# Altium integrated library Microchip Microcontroller 8-Bit PIC16.IntLib: 1412 symbols (part 23 of 47)
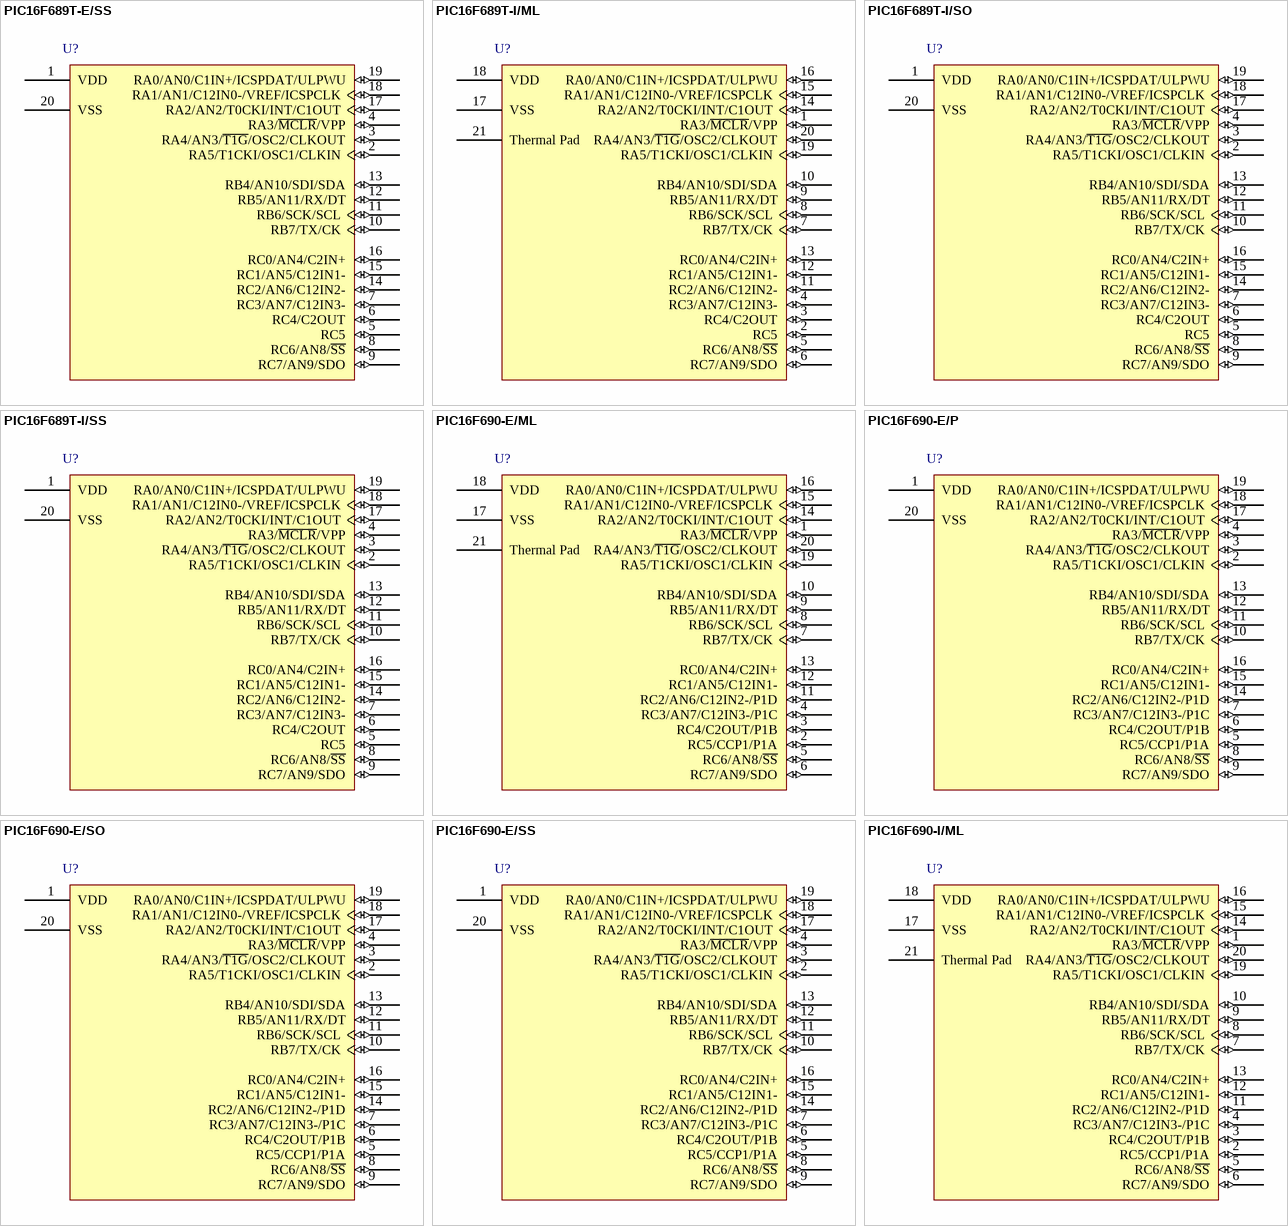
[diagram p134: symbols PIC16F689T-E/SS to PIC16F690-I/ML]

## PIC16F690-I/ML
designator U?
Flash-Based, 8-Bit CMOS Microcontroller with nanoWatt Technology, 4K (x14-Bit words) Program Memory, 512 Bytes Data Memory, 18 I/O pins, 20-Pin QFN, Standard VDD Range, Industrial Temperature; Published: 29-Jan-2009; DatasheetVersion: revE, Mar-2008; PackageVersion: revAW, Oct-2008; PackageReference: QFN-ML20; Publisher: Altium Limited; PackageDescription: 20-Lead Plastic Quad Flat, No Lead Package (ML) - 4x4x0.9 mm Body [QFN]; ComponentLink1Description: Manufacturer Link; ComponentLink1URL: http://www.microchip.com; ComponentLink2Description: Datasheet; ComponentLink2URL: http://ww1.microchip.com/downloads/en/DeviceDoc/41262E.pdf; ComponentLink3Description: Packaging Specification; ComponentLink3URL: http://ww1.microchip.com/downloads/en/PackagingSpec/00049AW.pdf
footprint QFN-ML20_N (QFN, 20-Leads, Body 4x4mm, Pitch 0.5mm, IPC Medium Density)
footprint QFN-ML20_L (QFN, 20-Leads, Body 4x4mm, Pitch 0.5mm, IPC High Density)
footprint QFN-ML20_M (QFN, 20-Leads, Body 4x4mm, Pitch 0.5mm, IPC Low Density)
pins: 1 RA3/~{MCLR}/VPP (io), 2 RC5/CCP1/P1A (io), 3 RC4/C2OUT/P1B (io), 4 RC3/AN7/C12IN3-/P1C (io), 5 RC6/AN8/~{SS} (io), 6 RC7/AN9/SDO (io), 7 RB7/TX/CK (io), 8 RB6/SCK/SCL (io), 9 RB5/AN11/RX/DT (io), 10 RB4/AN10/SDI/SDA (io), 11 RC2/AN6/C12IN2-/P1D (io), 12 RC1/AN5/C12IN1- (io), 13 RC0/AN4/C2IN+ (io), 14 RA2/AN2/T0CKI/INT/C1OUT (io), 15 RA1/AN1/C12IN0-/VREF/ICSPCLK (io), 16 RA0/AN0/C1IN+/ICSPDAT/ULPWU (io), 17 VSS (power), 18 VDD (power), 19 RA5/T1CKI/OSC1/CLKIN (io), 20 RA4/AN3/~{T1G}/OSC2/CLKOUT (io), 21 Thermal Pad

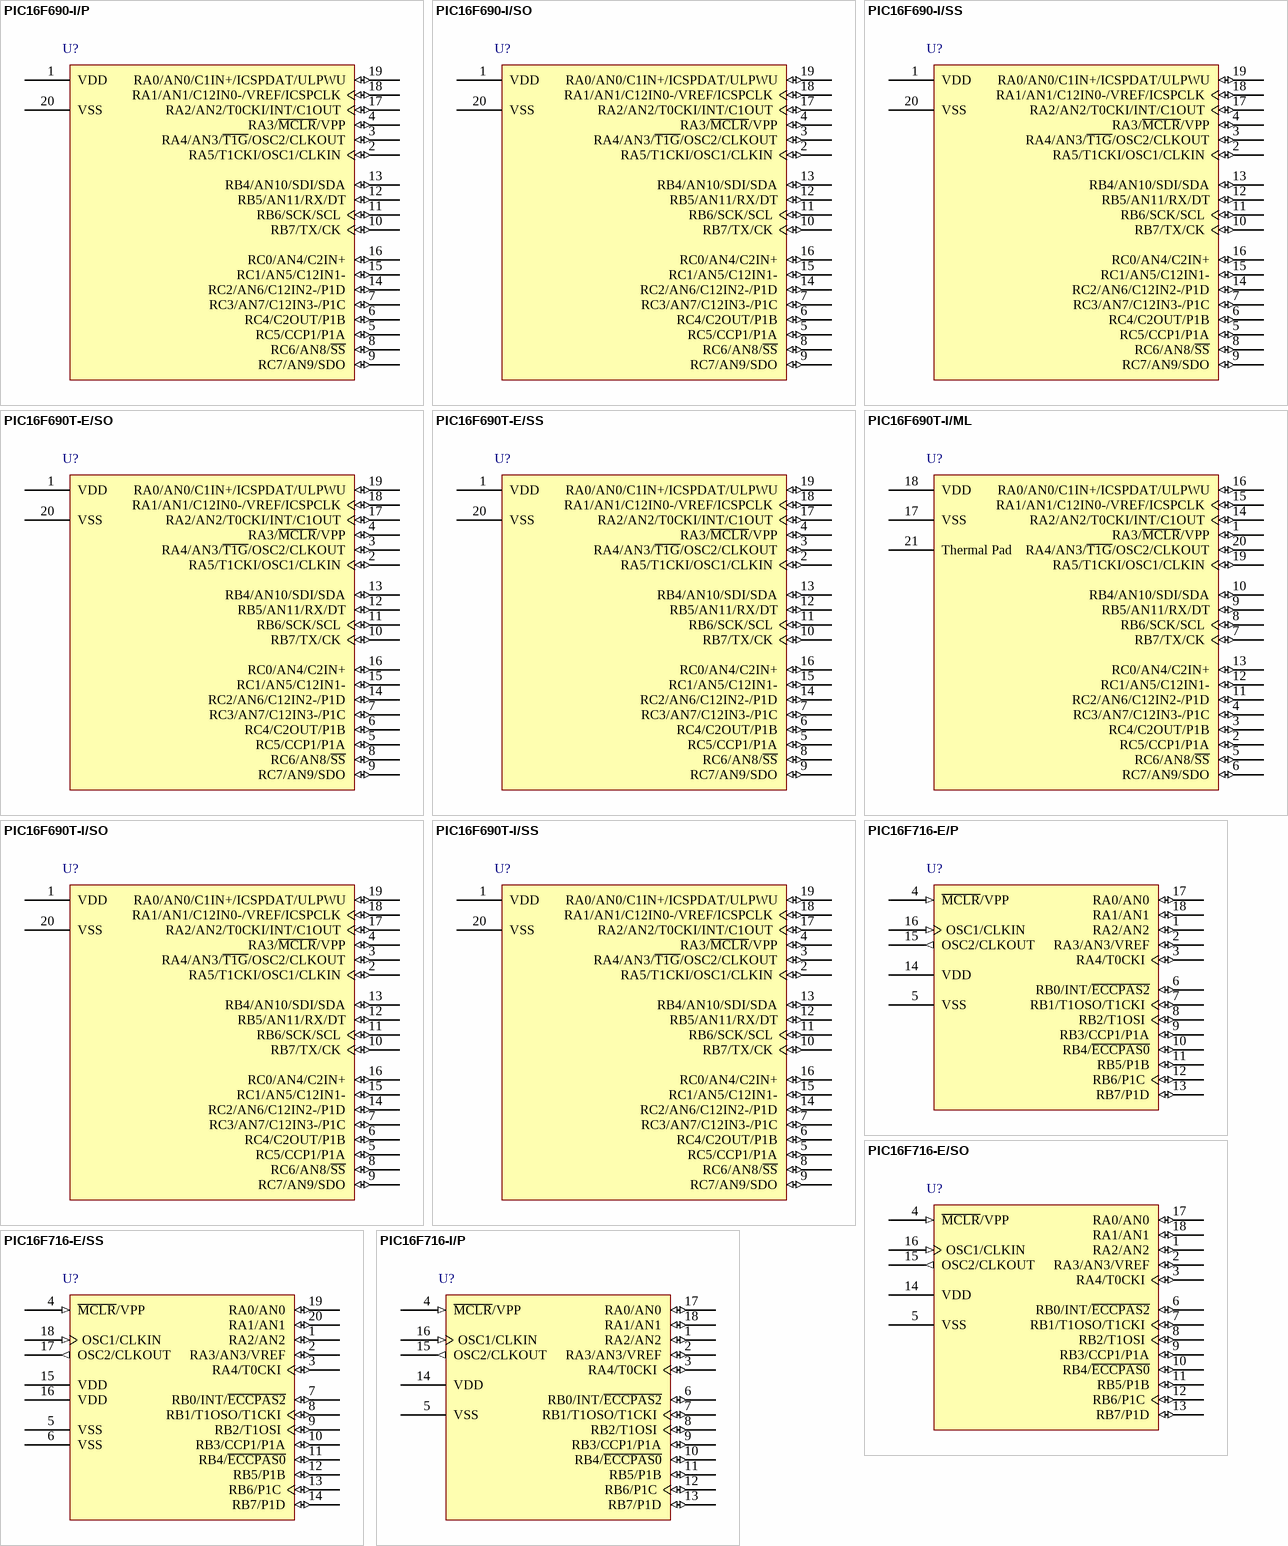
[diagram p50: symbols PIC16F690-I/P to PIC16F716-I/P]

## PIC16F690-I/P
designator U?
Flash-Based, 8-Bit CMOS Microcontroller with nanoWatt Technology, 4K (x14-Bit words) Program Memory, 512 Bytes Data Memory, 18 I/O pins, 20-Pin PDIP, Standard VDD Range, Industrial Temperature; Published: 29-Jan-2009; DatasheetVersion: revE, Mar-2008; PackageVersion: revAW, Oct-2008; PackageReference: PDIP300-P20; Publisher: Altium Limited; PackageDescription: 20-Lead Plastic Dual In-Line (P) - 300 mil Body [PDIP]; ComponentLink1Description: Manufacturer Link; ComponentLink1URL: http://www.microchip.com; ComponentLink2Description: Datasheet; ComponentLink2URL: http://ww1.microchip.com/downloads/en/DeviceDoc/41262E.pdf; ComponentLink3Description: Packaging Specification; ComponentLink3URL: http://ww1.microchip.com/downloads/en/PackagingSpec/00049AW.pdf
footprint PDIP300-P20 (DIP, 20-Leads, Row Spacing 7.62mm, Pitch 2.54mm, Body 25.9x6.6mm)
pins: 1 VDD (power), 2 RA5/T1CKI/OSC1/CLKIN (io), 3 RA4/AN3/~{T1G}/OSC2/CLKOUT (io), 4 RA3/~{MCLR}/VPP (io), 5 RC5/CCP1/P1A (io), 6 RC4/C2OUT/P1B (io), 7 RC3/AN7/C12IN3-/P1C (io), 8 RC6/AN8/~{SS} (io), 9 RC7/AN9/SDO (io), 10 RB7/TX/CK (io), 11 RB6/SCK/SCL (io), 12 RB5/AN11/RX/DT (io), 13 RB4/AN10/SDI/SDA (io), 14 RC2/AN6/C12IN2-/P1D (io), 15 RC1/AN5/C12IN1- (io), 16 RC0/AN4/C2IN+ (io), 17 RA2/AN2/T0CKI/INT/C1OUT (io), 18 RA1/AN1/C12IN0-/VREF/ICSPCLK (io), 19 RA0/AN0/C1IN+/ICSPDAT/ULPWU (io), 20 VSS (power)

## PIC16F690-I/SO
designator U?
Flash-Based, 8-Bit CMOS Microcontroller with nanoWatt Technology, 4K (x14-Bit words) Program Memory, 512 Bytes Data Memory, 18 I/O pins, 20-Pin SOIC, Standard VDD Range, Industrial Temperature; Published: 29-Jan-2009; DatasheetVersion: revE, Mar-2008; PackageVersion: revAW, Oct-2008; PackageReference: SOIC-SO20; Publisher: Altium Limited; PackageDescription: 20-Lead Plastic Small Outline (SO) - Wide 7.50mm Body [SOIC]; Code_JEDEC: MS-013-AC; Code_IPC: SOIC127P1030-20; ComponentLink1Description: Manufacturer Link; ComponentLink1URL: http://www.microchip.com; ComponentLink2Description: Datasheet; ComponentLink2URL: http://ww1.microchip.com/downloads/en/DeviceDoc/41262E.pdf; ComponentLink3Description: Packaging Specification; ComponentLink3URL: http://ww1.microchip.com/downloads/en/PackagingSpec/00049AW.pdf
footprint SOIC-SO20_N (SOIC, 20-Leads, Body 12.8x7.5mm, Pitch 1.27mm, IPC Medium Density)
footprint SOIC-SO20_L (SOIC, 20-Leads, Body 12.8x7.5mm, Pitch 1.27mm, IPC High Density)
footprint SOIC-SO20_M (SOIC, 20-Leads, Body 12.8x7.5mm, Pitch 1.27mm, IPC Low Density)
pins: 1 VDD (power), 2 RA5/T1CKI/OSC1/CLKIN (io), 3 RA4/AN3/~{T1G}/OSC2/CLKOUT (io), 4 RA3/~{MCLR}/VPP (io), 5 RC5/CCP1/P1A (io), 6 RC4/C2OUT/P1B (io), 7 RC3/AN7/C12IN3-/P1C (io), 8 RC6/AN8/~{SS} (io), 9 RC7/AN9/SDO (io), 10 RB7/TX/CK (io), 11 RB6/SCK/SCL (io), 12 RB5/AN11/RX/DT (io), 13 RB4/AN10/SDI/SDA (io), 14 RC2/AN6/C12IN2-/P1D (io), 15 RC1/AN5/C12IN1- (io), 16 RC0/AN4/C2IN+ (io), 17 RA2/AN2/T0CKI/INT/C1OUT (io), 18 RA1/AN1/C12IN0-/VREF/ICSPCLK (io), 19 RA0/AN0/C1IN+/ICSPDAT/ULPWU (io), 20 VSS (power)

## PIC16F690-I/SS
designator U?
Flash-Based, 8-Bit CMOS Microcontroller with nanoWatt Technology, 4K (x14-Bit words) Program Memory, 512 Bytes Data Memory, 18 I/O pins, 20-Pin SSOP, Standard VDD Range, Industrial Temperature; Published: 29-Jan-2009; DatasheetVersion: revE, Mar-2008; PackageVersion: revAW, Oct-2008; PackageReference: SSOP-SS20; Publisher: Altium Limited; PackageDescription: 20-Lead Plastic Shrink Small Outline (SS) - 5.3mm Body [SSOP]; Code_JEDEC: MO-150; Code_IPC: SOP65P780-20; ComponentLink1Description: Manufacturer Link; ComponentLink1URL: http://www.microchip.com; ComponentLink2Description: Datasheet; ComponentLink2URL: http://ww1.microchip.com/downloads/en/DeviceDoc/41262E.pdf; ComponentLink3Description: Packaging Specification; ComponentLink3URL: http://ww1.microchip.com/downloads/en/PackagingSpec/00049AW.pdf
footprint SSOP-SS20_N (SOP, 20-Leads, Body 7.2x5.2mm, Pitch 0.65mm, IPC Medium Density)
footprint SSOP-SS20_L (SOP, 20-Leads, Body 7.2x5.2mm, Pitch 0.65mm, IPC High Density)
footprint SSOP-SS20_M (SOP, 20-Leads, Body 7.2x5.2mm, Pitch 0.65mm, IPC Low Density)
pins: 1 VDD (power), 2 RA5/T1CKI/OSC1/CLKIN (io), 3 RA4/AN3/~{T1G}/OSC2/CLKOUT (io), 4 RA3/~{MCLR}/VPP (io), 5 RC5/CCP1/P1A (io), 6 RC4/C2OUT/P1B (io), 7 RC3/AN7/C12IN3-/P1C (io), 8 RC6/AN8/~{SS} (io), 9 RC7/AN9/SDO (io), 10 RB7/TX/CK (io), 11 RB6/SCK/SCL (io), 12 RB5/AN11/RX/DT (io), 13 RB4/AN10/SDI/SDA (io), 14 RC2/AN6/C12IN2-/P1D (io), 15 RC1/AN5/C12IN1- (io), 16 RC0/AN4/C2IN+ (io), 17 RA2/AN2/T0CKI/INT/C1OUT (io), 18 RA1/AN1/C12IN0-/VREF/ICSPCLK (io), 19 RA0/AN0/C1IN+/ICSPDAT/ULPWU (io), 20 VSS (power)

## PIC16F690T-E/SO
designator U?
Flash-Based, 8-Bit CMOS Microcontroller with nanoWatt Technology, 4K (x14-Bit words) Program Memory, 512 Bytes Data Memory, 18 I/O pins, 20-Pin SOIC, Standard VDD Range, Extended Temperature, Tape and Reel; Published: 29-Jan-2009; DatasheetVersion: revE, Mar-2008; PackageVersion: revAW, Oct-2008; PackageReference: SOIC-SO20; Publisher: Altium Limited; PackageDescription: 20-Lead Plastic Small Outline (SO) - Wide 7.50mm Body [SOIC]; Code_JEDEC: MS-013-AC; Code_IPC: SOIC127P1030-20; ComponentLink1Description: Manufacturer Link; ComponentLink1URL: http://www.microchip.com; ComponentLink2Description: Datasheet; ComponentLink2URL: http://ww1.microchip.com/downloads/en/DeviceDoc/41262E.pdf; ComponentLink3Description: Packaging Specification; ComponentLink3URL: http://ww1.microchip.com/downloads/en/PackagingSpec/00049AW.pdf
footprint SOIC-SO20_N (SOIC, 20-Leads, Body 12.8x7.5mm, Pitch 1.27mm, IPC Medium Density)
footprint SOIC-SO20_L (SOIC, 20-Leads, Body 12.8x7.5mm, Pitch 1.27mm, IPC High Density)
footprint SOIC-SO20_M (SOIC, 20-Leads, Body 12.8x7.5mm, Pitch 1.27mm, IPC Low Density)
pins: 1 VDD (power), 2 RA5/T1CKI/OSC1/CLKIN (io), 3 RA4/AN3/~{T1G}/OSC2/CLKOUT (io), 4 RA3/~{MCLR}/VPP (io), 5 RC5/CCP1/P1A (io), 6 RC4/C2OUT/P1B (io), 7 RC3/AN7/C12IN3-/P1C (io), 8 RC6/AN8/~{SS} (io), 9 RC7/AN9/SDO (io), 10 RB7/TX/CK (io), 11 RB6/SCK/SCL (io), 12 RB5/AN11/RX/DT (io), 13 RB4/AN10/SDI/SDA (io), 14 RC2/AN6/C12IN2-/P1D (io), 15 RC1/AN5/C12IN1- (io), 16 RC0/AN4/C2IN+ (io), 17 RA2/AN2/T0CKI/INT/C1OUT (io), 18 RA1/AN1/C12IN0-/VREF/ICSPCLK (io), 19 RA0/AN0/C1IN+/ICSPDAT/ULPWU (io), 20 VSS (power)

## PIC16F690T-E/SS
designator U?
Flash-Based, 8-Bit CMOS Microcontroller with nanoWatt Technology, 4K (x14-Bit words) Program Memory, 512 Bytes Data Memory, 18 I/O pins, 20-Pin SSOP, Standard VDD Range, Extended Temperature, Tape and Reel; Published: 29-Jan-2009; DatasheetVersion: revE, Mar-2008; PackageVersion: revAW, Oct-2008; PackageReference: SSOP-SS20; Publisher: Altium Limited; PackageDescription: 20-Lead Plastic Shrink Small Outline (SS) - 5.3mm Body [SSOP]; Code_JEDEC: MO-150; Code_IPC: SOP65P780-20; ComponentLink1Description: Manufacturer Link; ComponentLink1URL: http://www.microchip.com; ComponentLink2Description: Datasheet; ComponentLink2URL: http://ww1.microchip.com/downloads/en/DeviceDoc/41262E.pdf; ComponentLink3Description: Packaging Specification; ComponentLink3URL: http://ww1.microchip.com/downloads/en/PackagingSpec/00049AW.pdf
footprint SSOP-SS20_N (SOP, 20-Leads, Body 7.2x5.2mm, Pitch 0.65mm, IPC Medium Density)
footprint SSOP-SS20_L (SOP, 20-Leads, Body 7.2x5.2mm, Pitch 0.65mm, IPC High Density)
footprint SSOP-SS20_M (SOP, 20-Leads, Body 7.2x5.2mm, Pitch 0.65mm, IPC Low Density)
pins: 1 VDD (power), 2 RA5/T1CKI/OSC1/CLKIN (io), 3 RA4/AN3/~{T1G}/OSC2/CLKOUT (io), 4 RA3/~{MCLR}/VPP (io), 5 RC5/CCP1/P1A (io), 6 RC4/C2OUT/P1B (io), 7 RC3/AN7/C12IN3-/P1C (io), 8 RC6/AN8/~{SS} (io), 9 RC7/AN9/SDO (io), 10 RB7/TX/CK (io), 11 RB6/SCK/SCL (io), 12 RB5/AN11/RX/DT (io), 13 RB4/AN10/SDI/SDA (io), 14 RC2/AN6/C12IN2-/P1D (io), 15 RC1/AN5/C12IN1- (io), 16 RC0/AN4/C2IN+ (io), 17 RA2/AN2/T0CKI/INT/C1OUT (io), 18 RA1/AN1/C12IN0-/VREF/ICSPCLK (io), 19 RA0/AN0/C1IN+/ICSPDAT/ULPWU (io), 20 VSS (power)

## PIC16F690T-I/ML
designator U?
Flash-Based, 8-Bit CMOS Microcontroller with nanoWatt Technology, 4K (x14-Bit words) Program Memory, 512 Bytes Data Memory, 18 I/O pins, 20-Pin QFN, Standard VDD Range, Industrial Temperature, Tape and Reel; Published: 29-Jan-2009; DatasheetVersion: revE, Mar-2008; PackageVersion: revAW, Oct-2008; PackageReference: QFN-ML20; Publisher: Altium Limited; PackageDescription: 20-Lead Plastic Quad Flat, No Lead Package (ML) - 4x4x0.9 mm Body [QFN]; ComponentLink1Description: Manufacturer Link; ComponentLink1URL: http://www.microchip.com; ComponentLink2Description: Datasheet; ComponentLink2URL: http://ww1.microchip.com/downloads/en/DeviceDoc/41262E.pdf; ComponentLink3Description: Packaging Specification; ComponentLink3URL: http://ww1.microchip.com/downloads/en/PackagingSpec/00049AW.pdf
footprint QFN-ML20_N (QFN, 20-Leads, Body 4x4mm, Pitch 0.5mm, IPC Medium Density)
footprint QFN-ML20_L (QFN, 20-Leads, Body 4x4mm, Pitch 0.5mm, IPC High Density)
footprint QFN-ML20_M (QFN, 20-Leads, Body 4x4mm, Pitch 0.5mm, IPC Low Density)
pins: 1 RA3/~{MCLR}/VPP (io), 2 RC5/CCP1/P1A (io), 3 RC4/C2OUT/P1B (io), 4 RC3/AN7/C12IN3-/P1C (io), 5 RC6/AN8/~{SS} (io), 6 RC7/AN9/SDO (io), 7 RB7/TX/CK (io), 8 RB6/SCK/SCL (io), 9 RB5/AN11/RX/DT (io), 10 RB4/AN10/SDI/SDA (io), 11 RC2/AN6/C12IN2-/P1D (io), 12 RC1/AN5/C12IN1- (io), 13 RC0/AN4/C2IN+ (io), 14 RA2/AN2/T0CKI/INT/C1OUT (io), 15 RA1/AN1/C12IN0-/VREF/ICSPCLK (io), 16 RA0/AN0/C1IN+/ICSPDAT/ULPWU (io), 17 VSS (power), 18 VDD (power), 19 RA5/T1CKI/OSC1/CLKIN (io), 20 RA4/AN3/~{T1G}/OSC2/CLKOUT (io), 21 Thermal Pad

## PIC16F690T-I/SO
designator U?
Flash-Based, 8-Bit CMOS Microcontroller with nanoWatt Technology, 4K (x14-Bit words) Program Memory, 512 Bytes Data Memory, 18 I/O pins, 20-Pin SOIC, Standard VDD Range, Industrial Temperature, Tape and Reel; Published: 29-Jan-2009; DatasheetVersion: revE, Mar-2008; PackageVersion: revAW, Oct-2008; PackageReference: SOIC-SO20; Publisher: Altium Limited; PackageDescription: 20-Lead Plastic Small Outline (SO) - Wide 7.50mm Body [SOIC]; Code_JEDEC: MS-013-AC; Code_IPC: SOIC127P1030-20; ComponentLink1Description: Manufacturer Link; ComponentLink1URL: http://www.microchip.com; ComponentLink2Description: Datasheet; ComponentLink2URL: http://ww1.microchip.com/downloads/en/DeviceDoc/41262E.pdf; ComponentLink3Description: Packaging Specification; ComponentLink3URL: http://ww1.microchip.com/downloads/en/PackagingSpec/00049AW.pdf
footprint SOIC-SO20_N (SOIC, 20-Leads, Body 12.8x7.5mm, Pitch 1.27mm, IPC Medium Density)
footprint SOIC-SO20_L (SOIC, 20-Leads, Body 12.8x7.5mm, Pitch 1.27mm, IPC High Density)
footprint SOIC-SO20_M (SOIC, 20-Leads, Body 12.8x7.5mm, Pitch 1.27mm, IPC Low Density)
pins: 1 VDD (power), 2 RA5/T1CKI/OSC1/CLKIN (io), 3 RA4/AN3/~{T1G}/OSC2/CLKOUT (io), 4 RA3/~{MCLR}/VPP (io), 5 RC5/CCP1/P1A (io), 6 RC4/C2OUT/P1B (io), 7 RC3/AN7/C12IN3-/P1C (io), 8 RC6/AN8/~{SS} (io), 9 RC7/AN9/SDO (io), 10 RB7/TX/CK (io), 11 RB6/SCK/SCL (io), 12 RB5/AN11/RX/DT (io), 13 RB4/AN10/SDI/SDA (io), 14 RC2/AN6/C12IN2-/P1D (io), 15 RC1/AN5/C12IN1- (io), 16 RC0/AN4/C2IN+ (io), 17 RA2/AN2/T0CKI/INT/C1OUT (io), 18 RA1/AN1/C12IN0-/VREF/ICSPCLK (io), 19 RA0/AN0/C1IN+/ICSPDAT/ULPWU (io), 20 VSS (power)

## PIC16F690T-I/SS
designator U?
Flash-Based, 8-Bit CMOS Microcontroller with nanoWatt Technology, 4K (x14-Bit words) Program Memory, 512 Bytes Data Memory, 18 I/O pins, 20-Pin SSOP, Standard VDD Range, Industrial Temperature, Tape and Reel; Published: 29-Jan-2009; DatasheetVersion: revE, Mar-2008; PackageVersion: revAW, Oct-2008; PackageReference: SSOP-SS20; Publisher: Altium Limited; PackageDescription: 20-Lead Plastic Shrink Small Outline (SS) - 5.3mm Body [SSOP]; Code_JEDEC: MO-150; Code_IPC: SOP65P780-20; ComponentLink1Description: Manufacturer Link; ComponentLink1URL: http://www.microchip.com; ComponentLink2Description: Datasheet; ComponentLink2URL: http://ww1.microchip.com/downloads/en/DeviceDoc/41262E.pdf; ComponentLink3Description: Packaging Specification; ComponentLink3URL: http://ww1.microchip.com/downloads/en/PackagingSpec/00049AW.pdf
footprint SSOP-SS20_N (SOP, 20-Leads, Body 7.2x5.2mm, Pitch 0.65mm, IPC Medium Density)
footprint SSOP-SS20_L (SOP, 20-Leads, Body 7.2x5.2mm, Pitch 0.65mm, IPC High Density)
footprint SSOP-SS20_M (SOP, 20-Leads, Body 7.2x5.2mm, Pitch 0.65mm, IPC Low Density)
pins: 1 VDD (power), 2 RA5/T1CKI/OSC1/CLKIN (io), 3 RA4/AN3/~{T1G}/OSC2/CLKOUT (io), 4 RA3/~{MCLR}/VPP (io), 5 RC5/CCP1/P1A (io), 6 RC4/C2OUT/P1B (io), 7 RC3/AN7/C12IN3-/P1C (io), 8 RC6/AN8/~{SS} (io), 9 RC7/AN9/SDO (io), 10 RB7/TX/CK (io), 11 RB6/SCK/SCL (io), 12 RB5/AN11/RX/DT (io), 13 RB4/AN10/SDI/SDA (io), 14 RC2/AN6/C12IN2-/P1D (io), 15 RC1/AN5/C12IN1- (io), 16 RC0/AN4/C2IN+ (io), 17 RA2/AN2/T0CKI/INT/C1OUT (io), 18 RA1/AN1/C12IN0-/VREF/ICSPCLK (io), 19 RA0/AN0/C1IN+/ICSPDAT/ULPWU (io), 20 VSS (power)

## PIC16F716-E/P
designator U?
8-Bit FLASH-Based Microcontroller with A/D Controller and Enhanced Capture/Compare PWM, 2K (x14-Bit words) FLASH, 128 Bytes RAM, 18-Pin PDIP, Extended Temperature; Published: 11-Oct-2004; LatestRevisionDate: 29-Jan-2009; LatestRevisionNote: Sch. layout revised. 3D Model Removed.; DatasheetVersion: revB, Feb-2007; PackageVersion: revAW, Oct-2008; PackageReference: PDIP300-P18; Publisher: Altium Limited; PackageDescription: 18-Lead Plastic Dual In-Line (P) - 300 mil Body [PDIP]; Code_JEDEC: MS-001; ComponentLink1Description: Manufacturer Link; ComponentLink1URL: http://www.microchip.com; ComponentLink2Description: Datasheet; ComponentLink2URL: http://ww1.microchip.com/downloads/en/DeviceDoc/41206a.pdf; ComponentLink3Description: Packaging Specification; ComponentLink3URL: http://ww1.microchip.com/downloads/en/PackagingSpec/00049AW.pdf
footprint PDIP300-P18 (DIP, 18-Leads, Row Spacing 7.62mm, Pitch 2.54mm, Body 22.9x6.6mm)
pins: 1 RA2/AN2 (io), 2 RA3/AN3/VREF (io), 3 RA4/T0CKI (io), 4 ~{MCLR}/VPP (in), 5 VSS (power), 6 RB0/INT/~{ECCPAS2} (io), 7 RB1/T1OSO/T1CKI (io), 8 RB2/T1OSI (io), 9 RB3/CCP1/P1A (io), 10 RB4/~{ECCPAS0} (io), 11 RB5/P1B (io), 12 RB6/P1C (io), 13 RB7/P1D (io), 14 VDD (power), 15 OSC2/CLKOUT (out), 16 OSC1/CLKIN (in), 17 RA0/AN0 (io), 18 RA1/AN1 (io)

## PIC16F716-E/SO
designator U?
8-Bit FLASH-Based Microcontroller with A/D Controller and Enhanced Capture/Compare PWM, 2K (x14-Bit words) FLASH, 128 Bytes RAM, 18-Pin SOIC, Extended Temperature; Published: 11-Oct-2004; LatestRevisionDate: 29-Jan-2009; LatestRevisionNote: Sch. layout revised. 3D Model Removed.; DatasheetVersion: revB, Feb-2007; PackageVersion: revAW, Oct-2008; PackageReference: SOIC-SO18; Publisher: Altium Limited; PackageDescription: 18-Lead Plastic Small Outline (SO) - Wide 7.50mm Body [SOIC]; Code_JEDEC: MS-013; ComponentLink1Description: Manufacturer Link; ComponentLink1URL: http://www.microchip.com; ComponentLink2Description: Datasheet; ComponentLink2URL: http://ww1.microchip.com/downloads/en/DeviceDoc/41206a.pdf; ComponentLink3Description: Packaging Specification; ComponentLink3URL: http://ww1.microchip.com/downloads/en/PackagingSpec/00049AW.pdf
footprint SOIC-SO18_N (SOIC, 18-Leads, Body 11.5x7.5mm, Pitch 1.27mm, IPC Medium Density)
footprint SOIC-SO18_L (SOIC, 18-Leads, Body 11.5x7.5mm, Pitch 1.27mm, IPC High Density)
footprint SOIC-SO18_M (SOIC, 18-Leads, Body 11.5x7.5mm, Pitch 1.27mm, IPC Low Density)
pins: 1 RA2/AN2 (io), 2 RA3/AN3/VREF (io), 3 RA4/T0CKI (io), 4 ~{MCLR}/VPP (in), 5 VSS (power), 6 RB0/INT/~{ECCPAS2} (io), 7 RB1/T1OSO/T1CKI (io), 8 RB2/T1OSI (io), 9 RB3/CCP1/P1A (io), 10 RB4/~{ECCPAS0} (io), 11 RB5/P1B (io), 12 RB6/P1C (io), 13 RB7/P1D (io), 14 VDD (power), 15 OSC2/CLKOUT (out), 16 OSC1/CLKIN (in), 17 RA0/AN0 (io), 18 RA1/AN1 (io)

## PIC16F716-E/SS
designator U?
8-Bit FLASH-Based Microcontroller with A/D Controller and Enhanced Capture/Compare PWM, 2K (x14-Bit words) FLASH, 128 Bytes RAM, 20-Pin SSOP, Extended Temperature; Published: 11-Oct-2004; LatestRevisionDate: 29-Jan-2009; LatestRevisionNote: Sch. layout revised. 3D Model Removed.; DatasheetVersion: revB, Feb-2007; PackageVersion: revAW, Oct-2008; PackageReference: SSOP-SS20; Publisher: Altium Limited; PackageDescription: 20-Lead Plastic Shrink Small Outline (SS) - 5.3mm Body [SSOP]; Code_JEDEC: MO-150; Code_IPC: SOP65P780-20; ComponentLink1Description: Manufacturer Link; ComponentLink1URL: http://www.microchip.com; ComponentLink2Description: Datasheet; ComponentLink2URL: http://ww1.microchip.com/downloads/en/DeviceDoc/41206a.pdf; ComponentLink3Description: Packaging Specification; ComponentLink3URL: http://ww1.microchip.com/downloads/en/PackagingSpec/00049AW.pdf
footprint SSOP-SS20_N (SOP, 20-Leads, Body 7.2x5.2mm, Pitch 0.65mm, IPC Medium Density)
footprint SSOP-SS20_L (SOP, 20-Leads, Body 7.2x5.2mm, Pitch 0.65mm, IPC High Density)
footprint SSOP-SS20_M (SOP, 20-Leads, Body 7.2x5.2mm, Pitch 0.65mm, IPC Low Density)
pins: 1 RA2/AN2 (io), 2 RA3/AN3/VREF (io), 3 RA4/T0CKI (io), 4 ~{MCLR}/VPP (in), 5 VSS (power), 6 VSS (power), 7 RB0/INT/~{ECCPAS2} (io), 8 RB1/T1OSO/T1CKI (io), 9 RB2/T1OSI (io), 10 RB3/CCP1/P1A (io), 11 RB4/~{ECCPAS0} (io), 12 RB5/P1B (io), 13 RB6/P1C (io), 14 RB7/P1D (io), 15 VDD (power), 16 VDD (power), 17 OSC2/CLKOUT (out), 18 OSC1/CLKIN (in), 19 RA0/AN0 (io), 20 RA1/AN1 (io)

## PIC16F716-I/P
designator U?
8-Bit FLASH-Based Microcontroller with A/D Controller and Enhanced Capture/Compare PWM, 2K (x14-Bit words) FLASH, 128 Bytes RAM, 18-Pin PDIP, Industrial Temperature; Published: 11-Oct-2004; LatestRevisionDate: 29-Jan-2009; LatestRevisionNote: Sch. layout revised. 3D Model Removed.; DatasheetVersion: revB, Feb-2007; PackageVersion: revAW, Oct-2008; PackageReference: PDIP300-P18; Publisher: Altium Limited; PackageDescription: 18-Lead Plastic Dual In-Line (P) - 300 mil Body [PDIP]; Code_JEDEC: MS-001; ComponentLink1Description: Manufacturer Link; ComponentLink1URL: http://www.microchip.com; ComponentLink2Description: Datasheet; ComponentLink2URL: http://ww1.microchip.com/downloads/en/DeviceDoc/41206a.pdf; ComponentLink3Description: Packaging Specification; ComponentLink3URL: http://ww1.microchip.com/downloads/en/PackagingSpec/00049AW.pdf
footprint PDIP300-P18 (DIP, 18-Leads, Row Spacing 7.62mm, Pitch 2.54mm, Body 22.9x6.6mm)
pins: 1 RA2/AN2 (io), 2 RA3/AN3/VREF (io), 3 RA4/T0CKI (io), 4 ~{MCLR}/VPP (in), 5 VSS (power), 6 RB0/INT/~{ECCPAS2} (io), 7 RB1/T1OSO/T1CKI (io), 8 RB2/T1OSI (io), 9 RB3/CCP1/P1A (io), 10 RB4/~{ECCPAS0} (io), 11 RB5/P1B (io), 12 RB6/P1C (io), 13 RB7/P1D (io), 14 VDD (power), 15 OSC2/CLKOUT (out), 16 OSC1/CLKIN (in), 17 RA0/AN0 (io), 18 RA1/AN1 (io)

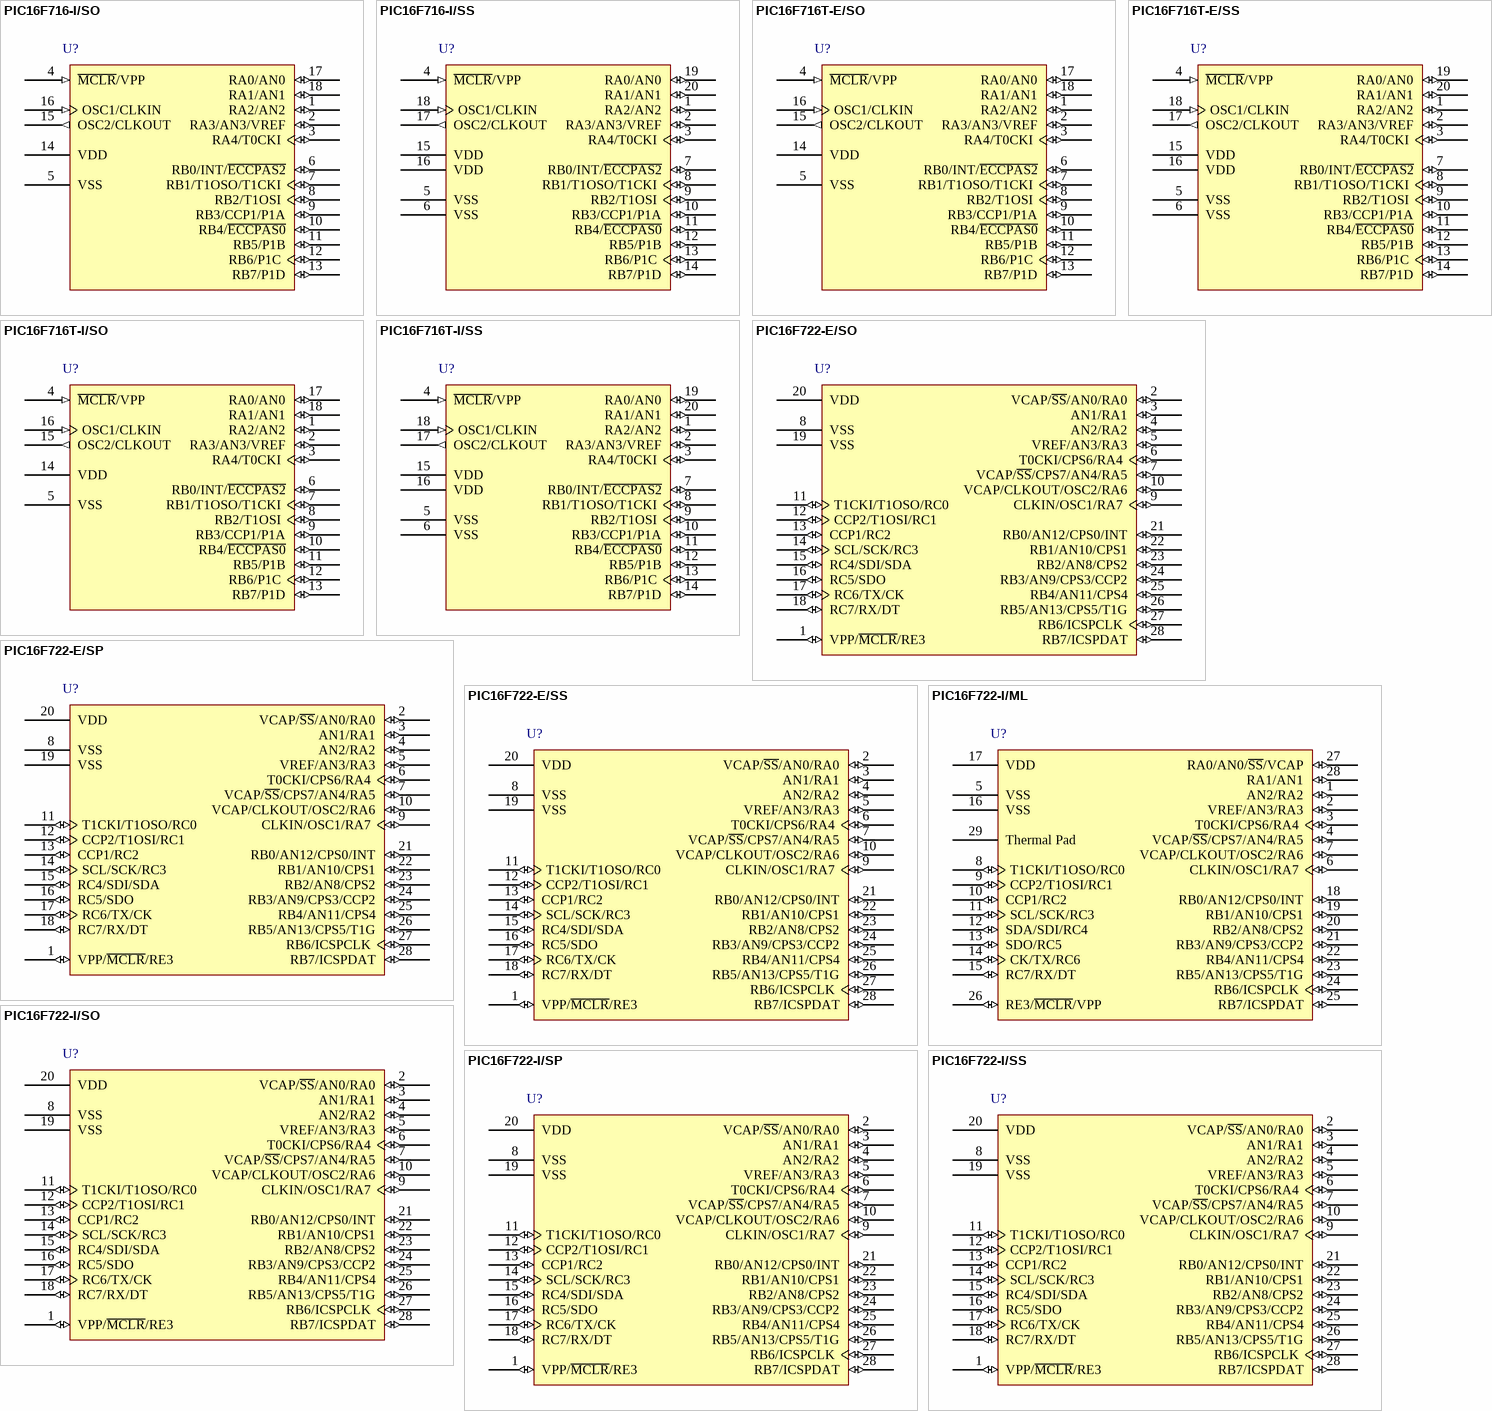
[diagram p51: symbols PIC16F716-I/SO to PIC16F722-I/SS]

## PIC16F716-I/SO
designator U?
8-Bit FLASH-Based Microcontroller with A/D Controller and Enhanced Capture/Compare PWM, 2K (x14-Bit words) FLASH, 128 Bytes RAM, 18-Pin SOIC, Industrial Temperature; Published: 11-Oct-2004; LatestRevisionDate: 29-Jan-2009; LatestRevisionNote: Sch. layout revised. 3D Model Removed.; DatasheetVersion: revB, Feb-2007; PackageVersion: revAW, Oct-2008; PackageReference: SOIC-SO18; Publisher: Altium Limited; PackageDescription: 18-Lead Plastic Small Outline (SO) - Wide 7.50mm Body [SOIC]; Code_JEDEC: MS-013; ComponentLink1Description: Manufacturer Link; ComponentLink1URL: http://www.microchip.com; ComponentLink2Description: Datasheet; ComponentLink2URL: http://ww1.microchip.com/downloads/en/DeviceDoc/41206a.pdf; ComponentLink3Description: Packaging Specification; ComponentLink3URL: http://ww1.microchip.com/downloads/en/PackagingSpec/00049AW.pdf
footprint SOIC-SO18_N (SOIC, 18-Leads, Body 11.5x7.5mm, Pitch 1.27mm, IPC Medium Density)
footprint SOIC-SO18_L (SOIC, 18-Leads, Body 11.5x7.5mm, Pitch 1.27mm, IPC High Density)
footprint SOIC-SO18_M (SOIC, 18-Leads, Body 11.5x7.5mm, Pitch 1.27mm, IPC Low Density)
pins: 1 RA2/AN2 (io), 2 RA3/AN3/VREF (io), 3 RA4/T0CKI (io), 4 ~{MCLR}/VPP (in), 5 VSS (power), 6 RB0/INT/~{ECCPAS2} (io), 7 RB1/T1OSO/T1CKI (io), 8 RB2/T1OSI (io), 9 RB3/CCP1/P1A (io), 10 RB4/~{ECCPAS0} (io), 11 RB5/P1B (io), 12 RB6/P1C (io), 13 RB7/P1D (io), 14 VDD (power), 15 OSC2/CLKOUT (out), 16 OSC1/CLKIN (in), 17 RA0/AN0 (io), 18 RA1/AN1 (io)

## PIC16F716-I/SS
designator U?
8-Bit FLASH-Based Microcontroller with A/D Controller and Enhanced Capture/Compare PWM, 2K (x14-Bit words) FLASH, 128 Bytes RAM, 20-Pin SSOP, Industrial Temperature; Published: 11-Oct-2004; LatestRevisionDate: 29-Jan-2009; LatestRevisionNote: Sch. layout revised. 3D Model Removed.; DatasheetVersion: revB, Feb-2007; PackageVersion: revAW, Oct-2008; PackageReference: SSOP-SS20; Publisher: Altium Limited; PackageDescription: 20-Lead Plastic Shrink Small Outline (SS) - 5.3mm Body [SSOP]; Code_JEDEC: MO-150; Code_IPC: SOP65P780-20; ComponentLink1Description: Manufacturer Link; ComponentLink1URL: http://www.microchip.com; ComponentLink2Description: Datasheet; ComponentLink2URL: http://ww1.microchip.com/downloads/en/DeviceDoc/41206a.pdf; ComponentLink3Description: Packaging Specification; ComponentLink3URL: http://ww1.microchip.com/downloads/en/PackagingSpec/00049AW.pdf
footprint SSOP-SS20_N (SOP, 20-Leads, Body 7.2x5.2mm, Pitch 0.65mm, IPC Medium Density)
footprint SSOP-SS20_L (SOP, 20-Leads, Body 7.2x5.2mm, Pitch 0.65mm, IPC High Density)
footprint SSOP-SS20_M (SOP, 20-Leads, Body 7.2x5.2mm, Pitch 0.65mm, IPC Low Density)
pins: 1 RA2/AN2 (io), 2 RA3/AN3/VREF (io), 3 RA4/T0CKI (io), 4 ~{MCLR}/VPP (in), 5 VSS (power), 6 VSS (power), 7 RB0/INT/~{ECCPAS2} (io), 8 RB1/T1OSO/T1CKI (io), 9 RB2/T1OSI (io), 10 RB3/CCP1/P1A (io), 11 RB4/~{ECCPAS0} (io), 12 RB5/P1B (io), 13 RB6/P1C (io), 14 RB7/P1D (io), 15 VDD (power), 16 VDD (power), 17 OSC2/CLKOUT (out), 18 OSC1/CLKIN (in), 19 RA0/AN0 (io), 20 RA1/AN1 (io)

## PIC16F716T-E/SO
designator U?
8-Bit FLASH-Based Microcontroller with A/D Controller and Enhanced Capture/Compare PWM, 2K (x14-Bit words) FLASH, 128 Bytes RAM, 18-Pin SOIC, Extended Temperature, Tape and Reel; Published: 11-Oct-2004; LatestRevisionDate: 29-Jan-2009; LatestRevisionNote: Sch. layout revised. 3D Model Removed.; DatasheetVersion: revB, Feb-2007; PackageVersion: revAW, Oct-2008; PackageReference: SOIC-SO18; Publisher: Altium Limited; PackageDescription: 18-Lead Plastic Small Outline (SO) - Wide 7.50mm Body [SOIC]; Code_JEDEC: MS-013; ComponentLink1Description: Manufacturer Link; ComponentLink1URL: http://www.microchip.com; ComponentLink2Description: Datasheet; ComponentLink2URL: http://ww1.microchip.com/downloads/en/DeviceDoc/41206a.pdf; ComponentLink3Description: Packaging Specification; ComponentLink3URL: http://ww1.microchip.com/downloads/en/PackagingSpec/00049AW.pdf
footprint SOIC-SO18_N (SOIC, 18-Leads, Body 11.5x7.5mm, Pitch 1.27mm, IPC Medium Density)
footprint SOIC-SO18_L (SOIC, 18-Leads, Body 11.5x7.5mm, Pitch 1.27mm, IPC High Density)
footprint SOIC-SO18_M (SOIC, 18-Leads, Body 11.5x7.5mm, Pitch 1.27mm, IPC Low Density)
pins: 1 RA2/AN2 (io), 2 RA3/AN3/VREF (io), 3 RA4/T0CKI (io), 4 ~{MCLR}/VPP (in), 5 VSS (power), 6 RB0/INT/~{ECCPAS2} (io), 7 RB1/T1OSO/T1CKI (io), 8 RB2/T1OSI (io), 9 RB3/CCP1/P1A (io), 10 RB4/~{ECCPAS0} (io), 11 RB5/P1B (io), 12 RB6/P1C (io), 13 RB7/P1D (io), 14 VDD (power), 15 OSC2/CLKOUT (out), 16 OSC1/CLKIN (in), 17 RA0/AN0 (io), 18 RA1/AN1 (io)

## PIC16F716T-E/SS
designator U?
8-Bit FLASH-Based Microcontroller with A/D Controller and Enhanced Capture/Compare PWM, 2K (x14-Bit words) FLASH, 128 Bytes RAM, 20-Pin SSOP, Extended Temperature, Tape and Reel; Published: 11-Oct-2004; LatestRevisionDate: 29-Jan-2009; LatestRevisionNote: Sch. layout revised. 3D Model Removed.; DatasheetVersion: revB, Feb-2007; PackageVersion: revAW, Oct-2008; PackageReference: SSOP-SS20; Publisher: Altium Limited; PackageDescription: 20-Lead Plastic Shrink Small Outline (SS) - 5.3mm Body [SSOP]; Code_JEDEC: MO-150; Code_IPC: SOP65P780-20; ComponentLink1Description: Manufacturer Link; ComponentLink1URL: http://www.microchip.com; ComponentLink2Description: Datasheet; ComponentLink2URL: http://ww1.microchip.com/downloads/en/DeviceDoc/41206a.pdf; ComponentLink3Description: Packaging Specification; ComponentLink3URL: http://ww1.microchip.com/downloads/en/PackagingSpec/00049AW.pdf
footprint SSOP-SS20_N (SOP, 20-Leads, Body 7.2x5.2mm, Pitch 0.65mm, IPC Medium Density)
footprint SSOP-SS20_L (SOP, 20-Leads, Body 7.2x5.2mm, Pitch 0.65mm, IPC High Density)
footprint SSOP-SS20_M (SOP, 20-Leads, Body 7.2x5.2mm, Pitch 0.65mm, IPC Low Density)
pins: 1 RA2/AN2 (io), 2 RA3/AN3/VREF (io), 3 RA4/T0CKI (io), 4 ~{MCLR}/VPP (in), 5 VSS (power), 6 VSS (power), 7 RB0/INT/~{ECCPAS2} (io), 8 RB1/T1OSO/T1CKI (io), 9 RB2/T1OSI (io), 10 RB3/CCP1/P1A (io), 11 RB4/~{ECCPAS0} (io), 12 RB5/P1B (io), 13 RB6/P1C (io), 14 RB7/P1D (io), 15 VDD (power), 16 VDD (power), 17 OSC2/CLKOUT (out), 18 OSC1/CLKIN (in), 19 RA0/AN0 (io), 20 RA1/AN1 (io)

## PIC16F716T-I/SO
designator U?
8-Bit FLASH-Based Microcontroller with A/D Controller and Enhanced Capture/Compare PWM, 2K (x14-Bit words) FLASH, 128 Bytes RAM, 18-Pin SOIC, Industrial Temperature, Tape and Reel; Published: 11-Oct-2004; LatestRevisionDate: 29-Jan-2009; LatestRevisionNote: Sch. layout revised. 3D Model Removed.; DatasheetVersion: revB, Feb-2007; PackageVersion: revAW, Oct-2008; PackageReference: SOIC-SO18; Publisher: Altium Limited; PackageDescription: 18-Lead Plastic Small Outline (SO) - Wide 7.50mm Body [SOIC]; Code_JEDEC: MS-013; ComponentLink1Description: Manufacturer Link; ComponentLink1URL: http://www.microchip.com; ComponentLink2Description: Datasheet; ComponentLink2URL: http://ww1.microchip.com/downloads/en/DeviceDoc/41206a.pdf; ComponentLink3Description: Packaging Specification; ComponentLink3URL: http://ww1.microchip.com/downloads/en/PackagingSpec/00049AW.pdf
footprint SOIC-SO18_N (SOIC, 18-Leads, Body 11.5x7.5mm, Pitch 1.27mm, IPC Medium Density)
footprint SOIC-SO18_L (SOIC, 18-Leads, Body 11.5x7.5mm, Pitch 1.27mm, IPC High Density)
footprint SOIC-SO18_M (SOIC, 18-Leads, Body 11.5x7.5mm, Pitch 1.27mm, IPC Low Density)
pins: 1 RA2/AN2 (io), 2 RA3/AN3/VREF (io), 3 RA4/T0CKI (io), 4 ~{MCLR}/VPP (in), 5 VSS (power), 6 RB0/INT/~{ECCPAS2} (io), 7 RB1/T1OSO/T1CKI (io), 8 RB2/T1OSI (io), 9 RB3/CCP1/P1A (io), 10 RB4/~{ECCPAS0} (io), 11 RB5/P1B (io), 12 RB6/P1C (io), 13 RB7/P1D (io), 14 VDD (power), 15 OSC2/CLKOUT (out), 16 OSC1/CLKIN (in), 17 RA0/AN0 (io), 18 RA1/AN1 (io)

## PIC16F716T-I/SS
designator U?
8-Bit FLASH-Based Microcontroller with A/D Controller and Enhanced Capture/Compare PWM, 2K (x14-Bit words) FLASH, 128 Bytes RAM, 20-Pin SSOP, Industrial Temperature, Tape and Reel; Published: 11-Oct-2004; LatestRevisionDate: 29-Jan-2009; LatestRevisionNote: Sch. layout revised. 3D Model Removed.; DatasheetVersion: revB, Feb-2007; PackageVersion: revAW, Oct-2008; PackageReference: SSOP-SS20; Publisher: Altium Limited; PackageDescription: 20-Lead Plastic Shrink Small Outline (SS) - 5.3mm Body [SSOP]; Code_JEDEC: MO-150; Code_IPC: SOP65P780-20; ComponentLink1Description: Manufacturer Link; ComponentLink1URL: http://www.microchip.com; ComponentLink2Description: Datasheet; ComponentLink2URL: http://ww1.microchip.com/downloads/en/DeviceDoc/41206a.pdf; ComponentLink3Description: Packaging Specification; ComponentLink3URL: http://ww1.microchip.com/downloads/en/PackagingSpec/00049AW.pdf
footprint SSOP-SS20_N (SOP, 20-Leads, Body 7.2x5.2mm, Pitch 0.65mm, IPC Medium Density)
footprint SSOP-SS20_L (SOP, 20-Leads, Body 7.2x5.2mm, Pitch 0.65mm, IPC High Density)
footprint SSOP-SS20_M (SOP, 20-Leads, Body 7.2x5.2mm, Pitch 0.65mm, IPC Low Density)
pins: 1 RA2/AN2 (io), 2 RA3/AN3/VREF (io), 3 RA4/T0CKI (io), 4 ~{MCLR}/VPP (in), 5 VSS (power), 6 VSS (power), 7 RB0/INT/~{ECCPAS2} (io), 8 RB1/T1OSO/T1CKI (io), 9 RB2/T1OSI (io), 10 RB3/CCP1/P1A (io), 11 RB4/~{ECCPAS0} (io), 12 RB5/P1B (io), 13 RB6/P1C (io), 14 RB7/P1D (io), 15 VDD (power), 16 VDD (power), 17 OSC2/CLKOUT (out), 18 OSC1/CLKIN (in), 19 RA0/AN0 (io), 20 RA1/AN1 (io)

## PIC16F722-E/SO
designator U?
Flash-Based, 8-Bit CMOS Microcontroller, 2K (x14-Bit words) Program Memory, 128 Bytes Data Memory, 25 I/O pins, 28-Pin SOIC, Standard VDD Range, Extended Temperature; Published: 29-Jan-2009; DatasheetVersion: revB, Aug-2008; PackageVersion: revAW, Oct-2008; PackageReference: SOIC-SO28; Publisher: Altium Limited; PackageDescription: 28-Lead Plastic Small Outline (SO) - Wide 7.50mm Body [SOIC]; Code_JEDEC: MS-013; ComponentLink1Description: Manufacturer Link; ComponentLink1URL: http://www.microchip.com; ComponentLink2Description: Datasheet; ComponentLink2URL: http://ww1.microchip.com/downloads/en/DeviceDoc/41341B.pdf; ComponentLink3Description: Packaging Specification; ComponentLink3URL: http://ww1.microchip.com/downloads/en/PackagingSpec/00049AW.pdf
footprint SOIC-SO28_N (SOIC, 28-Leads, Body 17.9x7.5mm, Pitch 1.27mm, IPC Medium Density)
footprint SOIC-SO28_L (SOIC, 28-Leads, Body 17.9x7.5mm, Pitch 1.27mm, IPC High Density)
footprint SOIC-SO28_M (SOIC, 28-Leads, Body 17.9x7.5mm, Pitch 1.27mm, IPC Low Density)
pins: 1 VPP/~{MCLR}/RE3 (io), 2 VCAP/~{SS}/AN0/RA0 (io), 3 AN1/RA1 (io), 4 AN2/RA2 (io), 5 VREF/AN3/RA3 (io), 6 T0CKI/CPS6/RA4 (io), 7 VCAP/~{SS}/CPS7/AN4/RA5 (io), 8 VSS (power), 9 CLKIN/OSC1/RA7 (io), 10 VCAP/CLKOUT/OSC2/RA6 (io), 11 T1CKI/T1OSO/RC0 (io), 12 CCP2/T1OSI/RC1 (io), 13 CCP1/RC2 (io), 14 SCL/SCK/RC3 (io), 15 RC4/SDI/SDA (io), 16 RC5/SDO (io), 17 RC6/TX/CK (io), 18 RC7/RX/DT (io), 19 VSS (power), 20 VDD (power), 21 RB0/AN12/CPS0/INT (io), 22 RB1/AN10/CPS1 (io), 23 RB2/AN8/CPS2 (io), 24 RB3/AN9/CPS3/CCP2 (io), 25 RB4/AN11/CPS4 (io), 26 RB5/AN13/CPS5/T1G (io), 27 RB6/ICSPCLK (io), 28 RB7/ICSPDAT (io)

## PIC16F722-E/SP
designator U?
Flash-Based, 8-Bit CMOS Microcontroller, 2K (x14-Bit words) Program Memory, 128 Bytes Data Memory, 25 I/O pins, 28-Pin SPDIP, Standard VDD Range, Extended Temperature; Published: 29-Jan-2009; DatasheetVersion: revB, Aug-2008; PackageVersion: revAW, Oct-2008; PackageReference: SPDIP300-SP28; Publisher: Altium Limited; PackageDescription: 28-Lead Skinny Plastic Dual In-Line (SP) - 300 mil Body [SPDIP]; ComponentLink1Description: Manufacturer Link; ComponentLink1URL: http://www.microchip.com; ComponentLink2Description: Datasheet; ComponentLink2URL: http://ww1.microchip.com/downloads/en/DeviceDoc/41341B.pdf; ComponentLink3Description: Packaging Specification; ComponentLink3URL: http://ww1.microchip.com/downloads/en/PackagingSpec/00049AW.pdf
footprint SPDIP300-SP28 (DIP, 28-Leads, Row Spacing 7.62mm, Pitch 2.54mm, Body 34.9x6.8mm)
pins: 1 VPP/~{MCLR}/RE3 (io), 2 VCAP/~{SS}/AN0/RA0 (io), 3 AN1/RA1 (io), 4 AN2/RA2 (io), 5 VREF/AN3/RA3 (io), 6 T0CKI/CPS6/RA4 (io), 7 VCAP/~{SS}/CPS7/AN4/RA5 (io), 8 VSS (power), 9 CLKIN/OSC1/RA7 (io), 10 VCAP/CLKOUT/OSC2/RA6 (io), 11 T1CKI/T1OSO/RC0 (io), 12 CCP2/T1OSI/RC1 (io), 13 CCP1/RC2 (io), 14 SCL/SCK/RC3 (io), 15 RC4/SDI/SDA (io), 16 RC5/SDO (io), 17 RC6/TX/CK (io), 18 RC7/RX/DT (io), 19 VSS (power), 20 VDD (power), 21 RB0/AN12/CPS0/INT (io), 22 RB1/AN10/CPS1 (io), 23 RB2/AN8/CPS2 (io), 24 RB3/AN9/CPS3/CCP2 (io), 25 RB4/AN11/CPS4 (io), 26 RB5/AN13/CPS5/T1G (io), 27 RB6/ICSPCLK (io), 28 RB7/ICSPDAT (io)

## PIC16F722-E/SS
designator U?
Flash-Based, 8-Bit CMOS Microcontroller, 2K (x14-Bit words) Program Memory, 128 Bytes Data Memory, 25 I/O pins, 28-Pin SSOP, Standard VDD Range, Extended Temperature; Published: 29-Jan-2009; DatasheetVersion: revB, Aug-2008; PackageVersion: revAW, Oct-2008; PackageReference: SSOP-SS28; Publisher: Altium Limited; PackageDescription: 28-Lead Plastic Shrink Small Outline (SS) - 5.3mm Body [SSOP]; Code_JEDEC: MS-150; Code_IPC: SOP65P780-28; ComponentLink1Description: Manufacturer Link; ComponentLink1URL: http://www.microchip.com; ComponentLink2Description: Datasheet; ComponentLink2URL: http://ww1.microchip.com/downloads/en/DeviceDoc/41341B.pdf; ComponentLink3Description: Packaging Specification; ComponentLink3URL: http://ww1.microchip.com/downloads/en/PackagingSpec/00049AW.pdf
footprint SSOP-SS28_N (SOP, 28-Leads, Body 10.2x5.2mm, Pitch 0.65mm, IPC Medium Density)
footprint SSOP-SS28_L (SOP, 28-Leads, Body 10.2x5.2mm, Pitch 0.65mm, IPC High Density)
footprint SSOP-SS28_M (SOP, 28-Leads, Body 10.2x5.2mm, Pitch 0.65mm, IPC Low Density)
pins: 1 VPP/~{MCLR}/RE3 (io), 2 VCAP/~{SS}/AN0/RA0 (io), 3 AN1/RA1 (io), 4 AN2/RA2 (io), 5 VREF/AN3/RA3 (io), 6 T0CKI/CPS6/RA4 (io), 7 VCAP/~{SS}/CPS7/AN4/RA5 (io), 8 VSS (power), 9 CLKIN/OSC1/RA7 (io), 10 VCAP/CLKOUT/OSC2/RA6 (io), 11 T1CKI/T1OSO/RC0 (io), 12 CCP2/T1OSI/RC1 (io), 13 CCP1/RC2 (io), 14 SCL/SCK/RC3 (io), 15 RC4/SDI/SDA (io), 16 RC5/SDO (io), 17 RC6/TX/CK (io), 18 RC7/RX/DT (io), 19 VSS (power), 20 VDD (power), 21 RB0/AN12/CPS0/INT (io), 22 RB1/AN10/CPS1 (io), 23 RB2/AN8/CPS2 (io), 24 RB3/AN9/CPS3/CCP2 (io), 25 RB4/AN11/CPS4 (io), 26 RB5/AN13/CPS5/T1G (io), 27 RB6/ICSPCLK (io), 28 RB7/ICSPDAT (io)

## PIC16F722-I/ML
designator U?
Flash-Based, 8-Bit CMOS Microcontroller, 2K (x14-Bit words) Program Memory, 128 Bytes Data Memory, 25 I/O pins, 28-Pin QFN, Standard VDD Range, Industrial Temperature; Published: 29-Jan-2009; DatasheetVersion: revB, Aug-2008; PackageVersion: revAW, Oct-2008; PackageReference: QFN-ML28; Publisher: Altium Limited; PackageDescription: 28-Lead Plastic Quad Flat, No Lead Package (ML) - 6x6 mm Body [QFN] with 0.55 mm Contact Length; Code_JEDEC: MO-220; Code_IPC: QFN65P600X600-28V; ComponentLink1Description: Manufacturer Link; ComponentLink1URL: http://www.microchip.com; ComponentLink2Description: Datasheet; ComponentLink2URL: http://ww1.microchip.com/downloads/en/DeviceDoc/41341B.pdf; ComponentLink3Description: Packaging Specification; ComponentLink3URL: http://ww1.microchip.com/downloads/en/PackagingSpec/00049AW.pdf
footprint QFN-ML28_N (QFN, 28-Leads, Body 6x6 mm, Pitch 0.65mm, IPC Medium Density)
footprint QFN-ML28_L (QFN, 28-Leads, Body 6x6 mm, Pitch 0.65mm, IPC High Density)
footprint QFN-ML28_M (QFN, 28-Leads, Body 6x6 mm, Pitch 0.65mm, IPC Low Density)
pins: 1 AN2/RA2 (io), 2 VREF/AN3/RA3 (io), 3 T0CKI/CPS6/RA4 (io), 4 VCAP/~{SS}/CPS7/AN4/RA5 (io), 5 VSS (power), 6 CLKIN/OSC1/RA7 (io), 7 VCAP/CLKOUT/OSC2/RA6 (io), 8 T1CKI/T1OSO/RC0 (io), 9 CCP2/T1OSI/RC1 (io), 10 CCP1/RC2 (io), 11 SCL/SCK/RC3 (io), 12 SDA/SDI/RC4 (io), 13 SDO/RC5 (io), 14 CK/TX/RC6 (io), 15 RC7/RX/DT (io), 16 VSS (power), 17 VDD (power), 18 RB0/AN12/CPS0/INT (io), 19 RB1/AN10/CPS1 (io), 20 RB2/AN8/CPS2 (io), 21 RB3/AN9/CPS3/CCP2 (io), 22 RB4/AN11/CPS4 (io), 23 RB5/AN13/CPS5/T1G (io), 24 RB6/ICSPCLK (io), 25 RB7/ICSPDAT (io), 26 RE3/~{MCLR}/VPP (io), 27 RA0/AN0/~{SS}/VCAP (io), 28 RA1/AN1 (io), 29 Thermal Pad

## PIC16F722-I/SO
designator U?
Flash-Based, 8-Bit CMOS Microcontroller, 2K (x14-Bit words) Program Memory, 128 Bytes Data Memory, 25 I/O pins, 28-Pin SOIC, Standard VDD Range, Industrial Temperature; Published: 29-Jan-2009; DatasheetVersion: revB, Aug-2008; PackageVersion: revAW, Oct-2008; PackageReference: SOIC-SO28; Publisher: Altium Limited; PackageDescription: 28-Lead Plastic Small Outline (SO) - Wide 7.50mm Body [SOIC]; Code_JEDEC: MS-013; ComponentLink1Description: Manufacturer Link; ComponentLink1URL: http://www.microchip.com; ComponentLink2Description: Datasheet; ComponentLink2URL: http://ww1.microchip.com/downloads/en/DeviceDoc/41341B.pdf; ComponentLink3Description: Packaging Specification; ComponentLink3URL: http://ww1.microchip.com/downloads/en/PackagingSpec/00049AW.pdf
footprint SOIC-SO28_N (SOIC, 28-Leads, Body 17.9x7.5mm, Pitch 1.27mm, IPC Medium Density)
footprint SOIC-SO28_L (SOIC, 28-Leads, Body 17.9x7.5mm, Pitch 1.27mm, IPC High Density)
footprint SOIC-SO28_M (SOIC, 28-Leads, Body 17.9x7.5mm, Pitch 1.27mm, IPC Low Density)
pins: 1 VPP/~{MCLR}/RE3 (io), 2 VCAP/~{SS}/AN0/RA0 (io), 3 AN1/RA1 (io), 4 AN2/RA2 (io), 5 VREF/AN3/RA3 (io), 6 T0CKI/CPS6/RA4 (io), 7 VCAP/~{SS}/CPS7/AN4/RA5 (io), 8 VSS (power), 9 CLKIN/OSC1/RA7 (io), 10 VCAP/CLKOUT/OSC2/RA6 (io), 11 T1CKI/T1OSO/RC0 (io), 12 CCP2/T1OSI/RC1 (io), 13 CCP1/RC2 (io), 14 SCL/SCK/RC3 (io), 15 RC4/SDI/SDA (io), 16 RC5/SDO (io), 17 RC6/TX/CK (io), 18 RC7/RX/DT (io), 19 VSS (power), 20 VDD (power), 21 RB0/AN12/CPS0/INT (io), 22 RB1/AN10/CPS1 (io), 23 RB2/AN8/CPS2 (io), 24 RB3/AN9/CPS3/CCP2 (io), 25 RB4/AN11/CPS4 (io), 26 RB5/AN13/CPS5/T1G (io), 27 RB6/ICSPCLK (io), 28 RB7/ICSPDAT (io)

## PIC16F722-I/SP
designator U?
Flash-Based, 8-Bit CMOS Microcontroller, 2K (x14-Bit words) Program Memory, 128 Bytes Data Memory, 25 I/O pins, 28-Pin SPDIP, Standard VDD Range, Industrial Temperature; Published: 29-Jan-2009; DatasheetVersion: revB, Aug-2008; PackageVersion: revAW, Oct-2008; PackageReference: SPDIP300-SP28; Publisher: Altium Limited; PackageDescription: 28-Lead Skinny Plastic Dual In-Line (SP) - 300 mil Body [SPDIP]; ComponentLink1Description: Manufacturer Link; ComponentLink1URL: http://www.microchip.com; ComponentLink2Description: Datasheet; ComponentLink2URL: http://ww1.microchip.com/downloads/en/DeviceDoc/41341B.pdf; ComponentLink3Description: Packaging Specification; ComponentLink3URL: http://ww1.microchip.com/downloads/en/PackagingSpec/00049AW.pdf
footprint SPDIP300-SP28 (DIP, 28-Leads, Row Spacing 7.62mm, Pitch 2.54mm, Body 34.9x6.8mm)
pins: 1 VPP/~{MCLR}/RE3 (io), 2 VCAP/~{SS}/AN0/RA0 (io), 3 AN1/RA1 (io), 4 AN2/RA2 (io), 5 VREF/AN3/RA3 (io), 6 T0CKI/CPS6/RA4 (io), 7 VCAP/~{SS}/CPS7/AN4/RA5 (io), 8 VSS (power), 9 CLKIN/OSC1/RA7 (io), 10 VCAP/CLKOUT/OSC2/RA6 (io), 11 T1CKI/T1OSO/RC0 (io), 12 CCP2/T1OSI/RC1 (io), 13 CCP1/RC2 (io), 14 SCL/SCK/RC3 (io), 15 RC4/SDI/SDA (io), 16 RC5/SDO (io), 17 RC6/TX/CK (io), 18 RC7/RX/DT (io), 19 VSS (power), 20 VDD (power), 21 RB0/AN12/CPS0/INT (io), 22 RB1/AN10/CPS1 (io), 23 RB2/AN8/CPS2 (io), 24 RB3/AN9/CPS3/CCP2 (io), 25 RB4/AN11/CPS4 (io), 26 RB5/AN13/CPS5/T1G (io), 27 RB6/ICSPCLK (io), 28 RB7/ICSPDAT (io)

## PIC16F722-I/SS
designator U?
Flash-Based, 8-Bit CMOS Microcontroller, 2K (x14-Bit words) Program Memory, 128 Bytes Data Memory, 25 I/O pins, 28-Pin SSOP, Standard VDD Range, Industrial Temperature; Published: 29-Jan-2009; DatasheetVersion: revB, Aug-2008; PackageVersion: revAW, Oct-2008; PackageReference: SSOP-SS28; Publisher: Altium Limited; PackageDescription: 28-Lead Plastic Shrink Small Outline (SS) - 5.3mm Body [SSOP]; Code_JEDEC: MS-150; Code_IPC: SOP65P780-28; ComponentLink1Description: Manufacturer Link; ComponentLink1URL: http://www.microchip.com; ComponentLink2Description: Datasheet; ComponentLink2URL: http://ww1.microchip.com/downloads/en/DeviceDoc/41341B.pdf; ComponentLink3Description: Packaging Specification; ComponentLink3URL: http://ww1.microchip.com/downloads/en/PackagingSpec/00049AW.pdf
footprint SSOP-SS28_N (SOP, 28-Leads, Body 10.2x5.2mm, Pitch 0.65mm, IPC Medium Density)
footprint SSOP-SS28_L (SOP, 28-Leads, Body 10.2x5.2mm, Pitch 0.65mm, IPC High Density)
footprint SSOP-SS28_M (SOP, 28-Leads, Body 10.2x5.2mm, Pitch 0.65mm, IPC Low Density)
pins: 1 VPP/~{MCLR}/RE3 (io), 2 VCAP/~{SS}/AN0/RA0 (io), 3 AN1/RA1 (io), 4 AN2/RA2 (io), 5 VREF/AN3/RA3 (io), 6 T0CKI/CPS6/RA4 (io), 7 VCAP/~{SS}/CPS7/AN4/RA5 (io), 8 VSS (power), 9 CLKIN/OSC1/RA7 (io), 10 VCAP/CLKOUT/OSC2/RA6 (io), 11 T1CKI/T1OSO/RC0 (io), 12 CCP2/T1OSI/RC1 (io), 13 CCP1/RC2 (io), 14 SCL/SCK/RC3 (io), 15 RC4/SDI/SDA (io), 16 RC5/SDO (io), 17 RC6/TX/CK (io), 18 RC7/RX/DT (io), 19 VSS (power), 20 VDD (power), 21 RB0/AN12/CPS0/INT (io), 22 RB1/AN10/CPS1 (io), 23 RB2/AN8/CPS2 (io), 24 RB3/AN9/CPS3/CCP2 (io), 25 RB4/AN11/CPS4 (io), 26 RB5/AN13/CPS5/T1G (io), 27 RB6/ICSPCLK (io), 28 RB7/ICSPDAT (io)

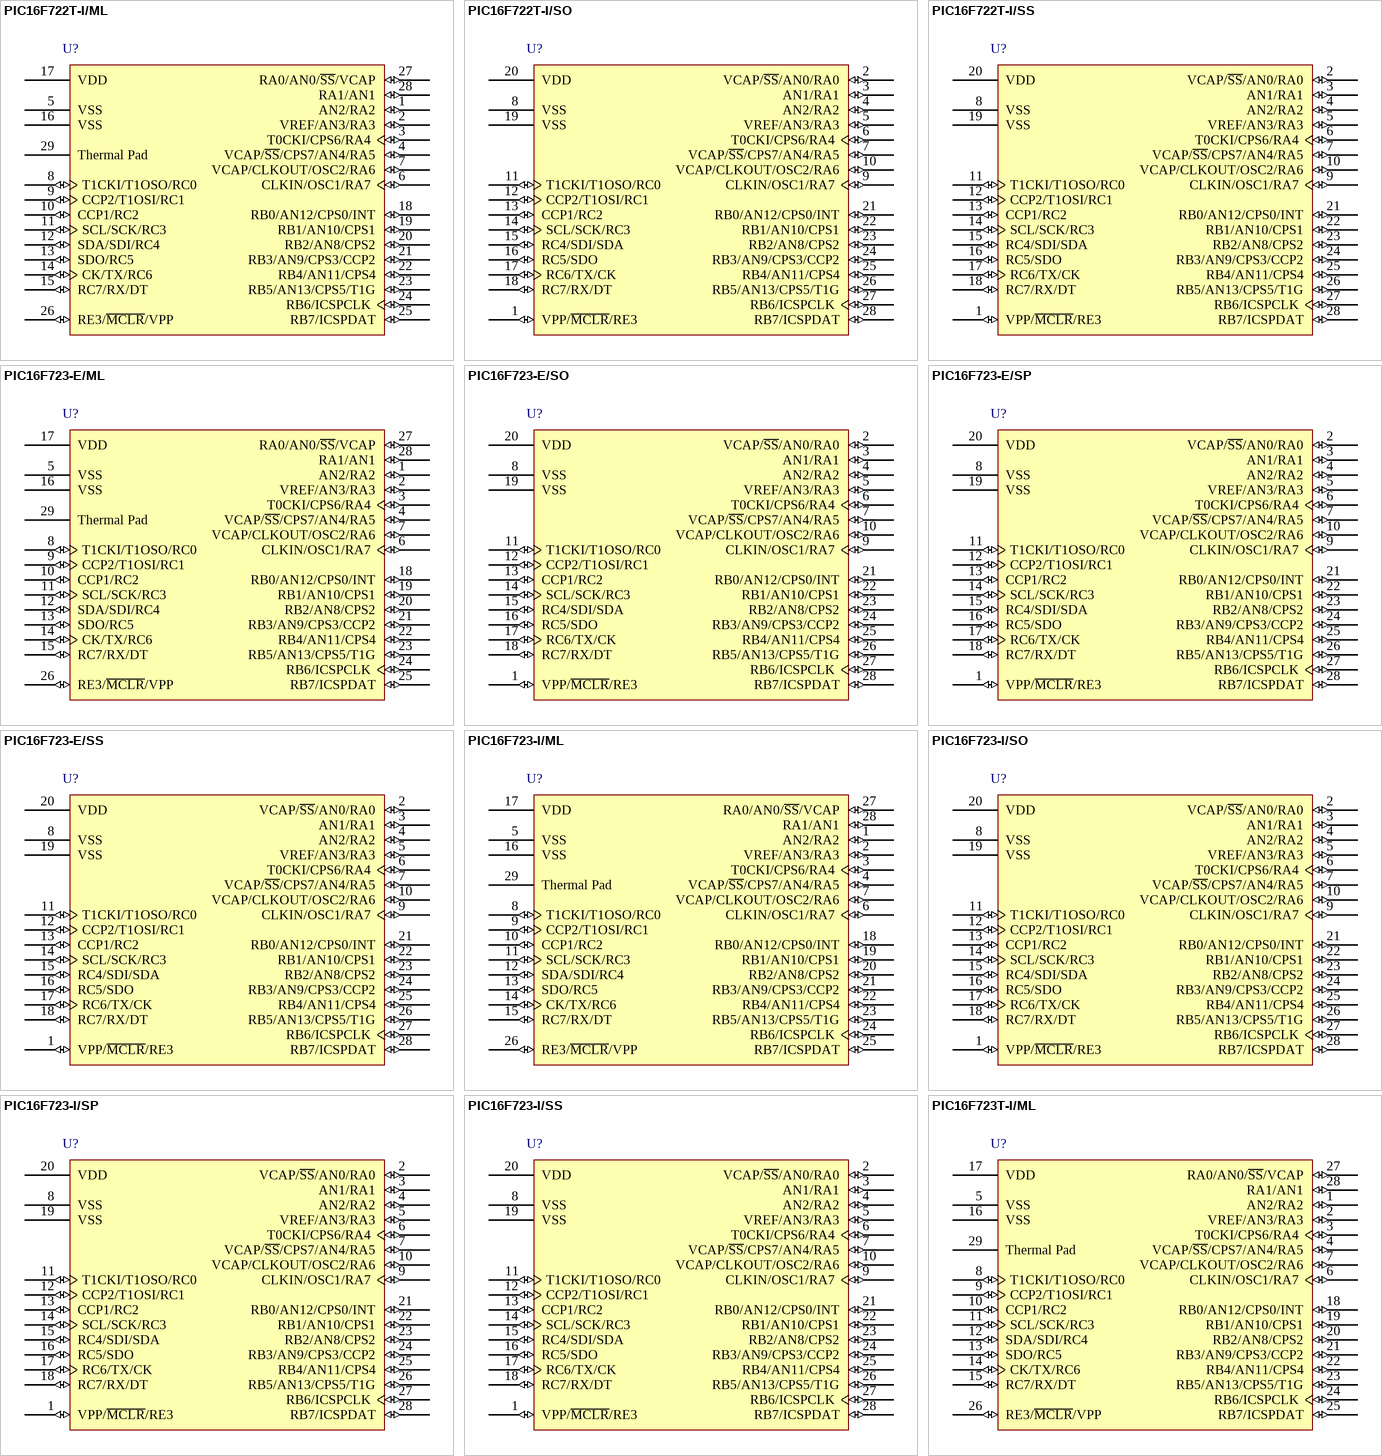
[diagram p52: symbols PIC16F722T-I/ML to PIC16F723T-I/ML]

## PIC16F722T-I/ML
designator U?
Flash-Based, 8-Bit CMOS Microcontroller, 2K (x14-Bit words) Program Memory, 128 Bytes Data Memory, 25 I/O pins, 28-Pin QFN, Standard VDD Range, Industrial Temperature, Tape and Reel; Published: 29-Jan-2009; DatasheetVersion: revB, Aug-2008; PackageVersion: revAW, Oct-2008; PackageReference: QFN-ML28; Publisher: Altium Limited; PackageDescription: 28-Lead Plastic Quad Flat, No Lead Package (ML) - 6x6 mm Body [QFN] with 0.55 mm Contact Length; Code_JEDEC: MO-220; Code_IPC: QFN65P600X600-28V; ComponentLink1Description: Manufacturer Link; ComponentLink1URL: http://www.microchip.com; ComponentLink2Description: Datasheet; ComponentLink2URL: http://ww1.microchip.com/downloads/en/DeviceDoc/41341B.pdf; ComponentLink3Description: Packaging Specification; ComponentLink3URL: http://ww1.microchip.com/downloads/en/PackagingSpec/00049AW.pdf
footprint QFN-ML28_N (QFN, 28-Leads, Body 6x6 mm, Pitch 0.65mm, IPC Medium Density)
footprint QFN-ML28_L (QFN, 28-Leads, Body 6x6 mm, Pitch 0.65mm, IPC High Density)
footprint QFN-ML28_M (QFN, 28-Leads, Body 6x6 mm, Pitch 0.65mm, IPC Low Density)
pins: 1 AN2/RA2 (io), 2 VREF/AN3/RA3 (io), 3 T0CKI/CPS6/RA4 (io), 4 VCAP/~{SS}/CPS7/AN4/RA5 (io), 5 VSS (power), 6 CLKIN/OSC1/RA7 (io), 7 VCAP/CLKOUT/OSC2/RA6 (io), 8 T1CKI/T1OSO/RC0 (io), 9 CCP2/T1OSI/RC1 (io), 10 CCP1/RC2 (io), 11 SCL/SCK/RC3 (io), 12 SDA/SDI/RC4 (io), 13 SDO/RC5 (io), 14 CK/TX/RC6 (io), 15 RC7/RX/DT (io), 16 VSS (power), 17 VDD (power), 18 RB0/AN12/CPS0/INT (io), 19 RB1/AN10/CPS1 (io), 20 RB2/AN8/CPS2 (io), 21 RB3/AN9/CPS3/CCP2 (io), 22 RB4/AN11/CPS4 (io), 23 RB5/AN13/CPS5/T1G (io), 24 RB6/ICSPCLK (io), 25 RB7/ICSPDAT (io), 26 RE3/~{MCLR}/VPP (io), 27 RA0/AN0/~{SS}/VCAP (io), 28 RA1/AN1 (io), 29 Thermal Pad

## PIC16F722T-I/SO
designator U?
Flash-Based, 8-Bit CMOS Microcontroller, 2K (x14-Bit words) Program Memory, 128 Bytes Data Memory, 25 I/O pins, 28-Pin SOIC, Standard VDD Range, Industrial Temperature, Tape and Reel; Published: 29-Jan-2009; DatasheetVersion: revB, Aug-2008; PackageVersion: revAW, Oct-2008; PackageReference: SOIC-SO28; Publisher: Altium Limited; PackageDescription: 28-Lead Plastic Small Outline (SO) - Wide 7.50mm Body [SOIC]; Code_JEDEC: MS-013; ComponentLink1Description: Manufacturer Link; ComponentLink1URL: http://www.microchip.com; ComponentLink2Description: Datasheet; ComponentLink2URL: http://ww1.microchip.com/downloads/en/DeviceDoc/41341B.pdf; ComponentLink3Description: Packaging Specification; ComponentLink3URL: http://ww1.microchip.com/downloads/en/PackagingSpec/00049AW.pdf
footprint SOIC-SO28_N (SOIC, 28-Leads, Body 17.9x7.5mm, Pitch 1.27mm, IPC Medium Density)
footprint SOIC-SO28_L (SOIC, 28-Leads, Body 17.9x7.5mm, Pitch 1.27mm, IPC High Density)
footprint SOIC-SO28_M (SOIC, 28-Leads, Body 17.9x7.5mm, Pitch 1.27mm, IPC Low Density)
pins: 1 VPP/~{MCLR}/RE3 (io), 2 VCAP/~{SS}/AN0/RA0 (io), 3 AN1/RA1 (io), 4 AN2/RA2 (io), 5 VREF/AN3/RA3 (io), 6 T0CKI/CPS6/RA4 (io), 7 VCAP/~{SS}/CPS7/AN4/RA5 (io), 8 VSS (power), 9 CLKIN/OSC1/RA7 (io), 10 VCAP/CLKOUT/OSC2/RA6 (io), 11 T1CKI/T1OSO/RC0 (io), 12 CCP2/T1OSI/RC1 (io), 13 CCP1/RC2 (io), 14 SCL/SCK/RC3 (io), 15 RC4/SDI/SDA (io), 16 RC5/SDO (io), 17 RC6/TX/CK (io), 18 RC7/RX/DT (io), 19 VSS (power), 20 VDD (power), 21 RB0/AN12/CPS0/INT (io), 22 RB1/AN10/CPS1 (io), 23 RB2/AN8/CPS2 (io), 24 RB3/AN9/CPS3/CCP2 (io), 25 RB4/AN11/CPS4 (io), 26 RB5/AN13/CPS5/T1G (io), 27 RB6/ICSPCLK (io), 28 RB7/ICSPDAT (io)

## PIC16F722T-I/SS
designator U?
Flash-Based, 8-Bit CMOS Microcontroller, 2K (x14-Bit words) Program Memory, 128 Bytes Data Memory, 25 I/O pins, 28-Pin SSOP, Standard VDD Range, Industrial Temperature, Tape and Reel; Published: 29-Jan-2009; DatasheetVersion: revB, Aug-2008; PackageVersion: revAW, Oct-2008; PackageReference: SSOP-SS28; Publisher: Altium Limited; PackageDescription: 28-Lead Plastic Shrink Small Outline (SS) - 5.3mm Body [SSOP]; Code_JEDEC: MS-150; Code_IPC: SOP65P780-28; ComponentLink1Description: Manufacturer Link; ComponentLink1URL: http://www.microchip.com; ComponentLink2Description: Datasheet; ComponentLink2URL: http://ww1.microchip.com/downloads/en/DeviceDoc/41341B.pdf; ComponentLink3Description: Packaging Specification; ComponentLink3URL: http://ww1.microchip.com/downloads/en/PackagingSpec/00049AW.pdf
footprint SSOP-SS28_N (SOP, 28-Leads, Body 10.2x5.2mm, Pitch 0.65mm, IPC Medium Density)
footprint SSOP-SS28_L (SOP, 28-Leads, Body 10.2x5.2mm, Pitch 0.65mm, IPC High Density)
footprint SSOP-SS28_M (SOP, 28-Leads, Body 10.2x5.2mm, Pitch 0.65mm, IPC Low Density)
pins: 1 VPP/~{MCLR}/RE3 (io), 2 VCAP/~{SS}/AN0/RA0 (io), 3 AN1/RA1 (io), 4 AN2/RA2 (io), 5 VREF/AN3/RA3 (io), 6 T0CKI/CPS6/RA4 (io), 7 VCAP/~{SS}/CPS7/AN4/RA5 (io), 8 VSS (power), 9 CLKIN/OSC1/RA7 (io), 10 VCAP/CLKOUT/OSC2/RA6 (io), 11 T1CKI/T1OSO/RC0 (io), 12 CCP2/T1OSI/RC1 (io), 13 CCP1/RC2 (io), 14 SCL/SCK/RC3 (io), 15 RC4/SDI/SDA (io), 16 RC5/SDO (io), 17 RC6/TX/CK (io), 18 RC7/RX/DT (io), 19 VSS (power), 20 VDD (power), 21 RB0/AN12/CPS0/INT (io), 22 RB1/AN10/CPS1 (io), 23 RB2/AN8/CPS2 (io), 24 RB3/AN9/CPS3/CCP2 (io), 25 RB4/AN11/CPS4 (io), 26 RB5/AN13/CPS5/T1G (io), 27 RB6/ICSPCLK (io), 28 RB7/ICSPDAT (io)

## PIC16F723-E/ML
designator U?
Flash-Based, 8-Bit CMOS Microcontroller, 4K (x14-Bit words) Program Memory, 192 Bytes Data Memory, 25 I/O pins, 28-Pin QFN, Standard VDD Range, Extended Temperature; Published: 29-Jan-2009; DatasheetVersion: revB, Aug-2008; PackageVersion: revAW, Oct-2008; PackageReference: QFN-ML28; Publisher: Altium Limited; PackageDescription: 28-Lead Plastic Quad Flat, No Lead Package (ML) - 6x6 mm Body [QFN] with 0.55 mm Contact Length; Code_JEDEC: MO-220; Code_IPC: QFN65P600X600-28V; ComponentLink1Description: Manufacturer Link; ComponentLink1URL: http://www.microchip.com; ComponentLink2Description: Datasheet; ComponentLink2URL: http://ww1.microchip.com/downloads/en/DeviceDoc/41341B.pdf; ComponentLink3Description: Packaging Specification; ComponentLink3URL: http://ww1.microchip.com/downloads/en/PackagingSpec/00049AW.pdf
footprint QFN-ML28_N (QFN, 28-Leads, Body 6x6 mm, Pitch 0.65mm, IPC Medium Density)
footprint QFN-ML28_L (QFN, 28-Leads, Body 6x6 mm, Pitch 0.65mm, IPC High Density)
footprint QFN-ML28_M (QFN, 28-Leads, Body 6x6 mm, Pitch 0.65mm, IPC Low Density)
pins: 1 AN2/RA2 (io), 2 VREF/AN3/RA3 (io), 3 T0CKI/CPS6/RA4 (io), 4 VCAP/~{SS}/CPS7/AN4/RA5 (io), 5 VSS (power), 6 CLKIN/OSC1/RA7 (io), 7 VCAP/CLKOUT/OSC2/RA6 (io), 8 T1CKI/T1OSO/RC0 (io), 9 CCP2/T1OSI/RC1 (io), 10 CCP1/RC2 (io), 11 SCL/SCK/RC3 (io), 12 SDA/SDI/RC4 (io), 13 SDO/RC5 (io), 14 CK/TX/RC6 (io), 15 RC7/RX/DT (io), 16 VSS (power), 17 VDD (power), 18 RB0/AN12/CPS0/INT (io), 19 RB1/AN10/CPS1 (io), 20 RB2/AN8/CPS2 (io), 21 RB3/AN9/CPS3/CCP2 (io), 22 RB4/AN11/CPS4 (io), 23 RB5/AN13/CPS5/T1G (io), 24 RB6/ICSPCLK (io), 25 RB7/ICSPDAT (io), 26 RE3/~{MCLR}/VPP (io), 27 RA0/AN0/~{SS}/VCAP (io), 28 RA1/AN1 (io), 29 Thermal Pad

## PIC16F723-E/SO
designator U?
Flash-Based, 8-Bit CMOS Microcontroller, 4K (x14-Bit words) Program Memory, 192 Bytes Data Memory, 25 I/O pins, 28-Pin SOIC, Standard VDD Range, Extended Temperature; Published: 29-Jan-2009; DatasheetVersion: revB, Aug-2008; PackageVersion: revAW, Oct-2008; PackageReference: SOIC-SO28; Publisher: Altium Limited; PackageDescription: 28-Lead Plastic Small Outline (SO) - Wide 7.50mm Body [SOIC]; Code_JEDEC: MS-013; ComponentLink1Description: Manufacturer Link; ComponentLink1URL: http://www.microchip.com; ComponentLink2Description: Datasheet; ComponentLink2URL: http://ww1.microchip.com/downloads/en/DeviceDoc/41341B.pdf; ComponentLink3Description: Packaging Specification; ComponentLink3URL: http://ww1.microchip.com/downloads/en/PackagingSpec/00049AW.pdf
footprint SOIC-SO28_N (SOIC, 28-Leads, Body 17.9x7.5mm, Pitch 1.27mm, IPC Medium Density)
footprint SOIC-SO28_L (SOIC, 28-Leads, Body 17.9x7.5mm, Pitch 1.27mm, IPC High Density)
footprint SOIC-SO28_M (SOIC, 28-Leads, Body 17.9x7.5mm, Pitch 1.27mm, IPC Low Density)
pins: 1 VPP/~{MCLR}/RE3 (io), 2 VCAP/~{SS}/AN0/RA0 (io), 3 AN1/RA1 (io), 4 AN2/RA2 (io), 5 VREF/AN3/RA3 (io), 6 T0CKI/CPS6/RA4 (io), 7 VCAP/~{SS}/CPS7/AN4/RA5 (io), 8 VSS (power), 9 CLKIN/OSC1/RA7 (io), 10 VCAP/CLKOUT/OSC2/RA6 (io), 11 T1CKI/T1OSO/RC0 (io), 12 CCP2/T1OSI/RC1 (io), 13 CCP1/RC2 (io), 14 SCL/SCK/RC3 (io), 15 RC4/SDI/SDA (io), 16 RC5/SDO (io), 17 RC6/TX/CK (io), 18 RC7/RX/DT (io), 19 VSS (power), 20 VDD (power), 21 RB0/AN12/CPS0/INT (io), 22 RB1/AN10/CPS1 (io), 23 RB2/AN8/CPS2 (io), 24 RB3/AN9/CPS3/CCP2 (io), 25 RB4/AN11/CPS4 (io), 26 RB5/AN13/CPS5/T1G (io), 27 RB6/ICSPCLK (io), 28 RB7/ICSPDAT (io)